# Altium footprint library SON50P200X80_HS-9N.PcbLib: 1 footprints
Each footprint in its own frame and in the unit in brackets; x right, y up, seen from the top. Pads: shape width x height; smd on the part's side, far side on the other; paste and mask are expansions set on the pad; w line width, h text height; cw(c..) or ccw(c..) is an arc to the next point about the centre after c.
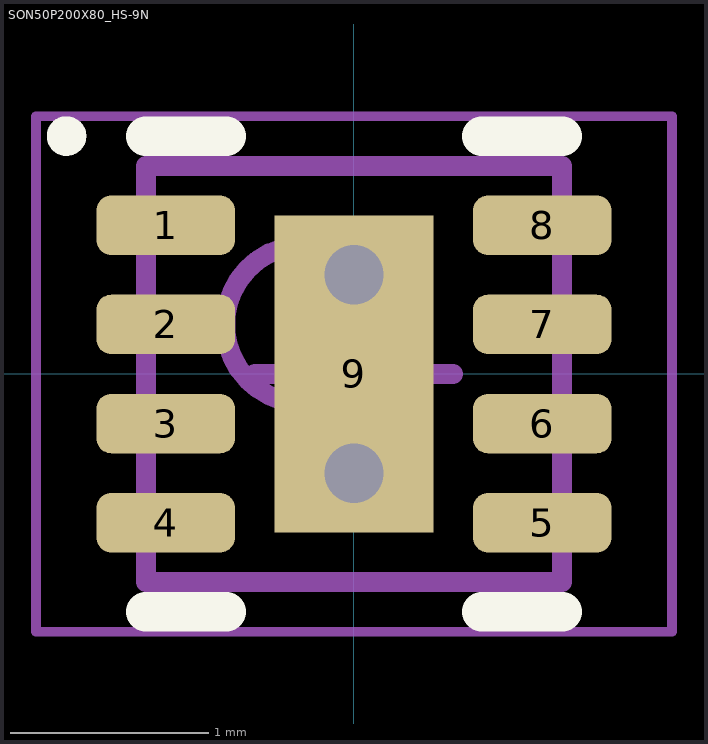
[diagram p0: the footprint, top view; thin cyan lines are the x and y axes]

## SON50P200X80_HS-9N [mm] "SON, 8-Leads, Body 2,00x2,00mm, Pitch 0,50mm, Thermal Pad 1,60x0,69mm, IPC Medium Density"
height 0.8
pads (9):
  rrect50% 0.7x0.3 smd: 1(-0.95,0.75) 2(-0.95,0.25) 3(-0.95,-0.25) 4(-0.95,-0.75) 5(0.95,-0.75) 6(0.95,-0.25) 7(0.95,0.25) 8(0.95,0.75)
  rect 0.8x1.6 smd: 9(0,0)
via 0,0.5 diameter 0.6 hole 0.3
via 0,-0.5 diameter 0.6 hole 0.3
Top Overlay:
  circle w0.1: c-1.45,1.2 r0.05
  lines w0.2: -1.05,-1.2 -0.645,-1.2 ; -1.05,1.2 -0.645,1.2 ; 0.645,-1.2 1.05,-1.2 ; 0.645,1.2 1.05,1.2
Top Assembly:
  circle w0.1: c-0.25,0.25 r0.4
  lines w0.1: -1.05,-1.05 1.05,-1.05 1.05,1.05 -1.05,1.05 -1.05,-1.05
Mechanical 15:
  lines w0.05: -1.605,-1.3 1.605,-1.3 1.605,1.3 -1.605,1.3 -1.605,-1.3
  lines w0.1: -0.5,0 0.5,0 ; 0,-0.5 0,0.5
3D body "SON50P200X80_HS-9N.step": height 0.8, standoff 0, extent -1.1,-1.05 1.1,1.05